# Altium schematic symbol library Schlib1.SchLib: 1 symbol
Pins are listed as number, name and electrical type; pins without a type are passive.

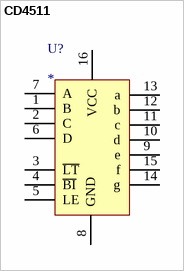
[diagram p0: symbol CD4511]

## CD4511
designator U?
footprint CD4511
pins: 1 B, 2 C, 3 ~{LT}, 4 ~{BI}, 5 LE, 6 D, 7 A, 8 GND, 9 e, 10 d, 11 c, 12 b, 13 a, 14 g, 15 f, 16 VCC